# EAGLE library part TORPEDO_DM3730 (library biomimetic)
LogicPD Torpeod DM3730 System-On-Module Mating connector HiRose DF40C-100DS-0.4V(51) Digi-Key P/N: H11615CT-ND
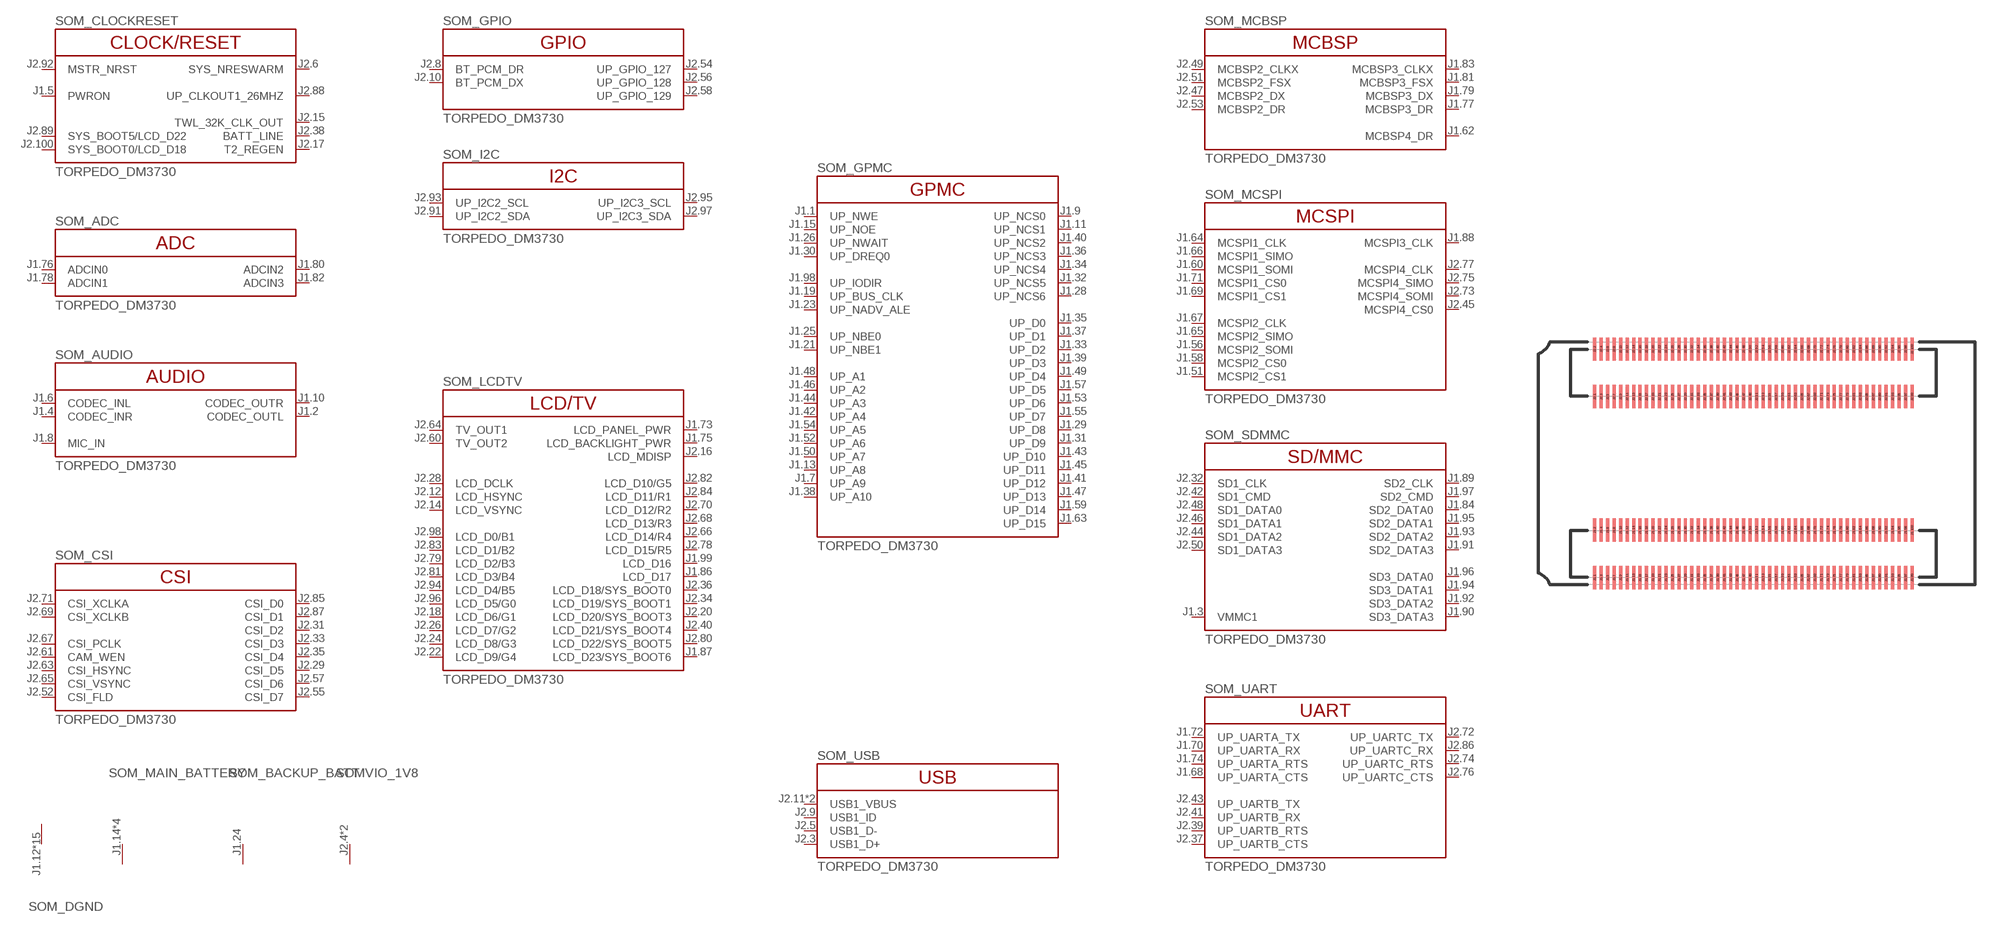
[diagram p12: symbol with the pads of TORPEDO_DM3730; footprint TORPEDO_DM3730]

Designator prefix SOM; gates _CLOCKRESET=TORPEDO_DM3730_CLOCKRESET _ADC=TORPEDO_DM3730_ADC _AUDIO=TORPEDO_DM3730_AUDIO _CSI=TORPEDO_DM3730_CSI _GPIO=TORPEDO_DM3730_GPIO _GPMC=TORPEDO_DM3730_GPMC _I2C=TORPEDO_DM3730_I2C _LCDTV=TORPEDO_DM3730_LCDTV _MCBSP=TORPEDO_DM3730_MCBSP _MCSPI=TORPEDO_DM3730_MCSPI _SDMMC=TORPEDO_DM3730_SDMMC _UART=TORPEDO_DM3730_UART _USB=TORPEDO_DM3730_USB _DGND=V- _MAIN_BATTERY=V+ _BACKUP_BATT=V+ VIO_1V8=V+

## TORPEDO_DM3730 (DIGIKEY: 460-3514-ND)  [TORPEDO_DM3730]
J1.1  _GPMC:UP_NWE
J1.2  _AUDIO:CODEC_OUTL
J1.3  _SDMMC:VMMC1
J1.4  _AUDIO:CODEC_INR
J1.5  _CLOCKRESET:PWRON
J1.6  _AUDIO:CODEC_INL
J1.7  _GPMC:UP_A9
J1.8  _AUDIO:MIC_IN
J1.9  _GPMC:UP_NCS0
J1.10  _AUDIO:CODEC_OUTR
J1.11  _GPMC:UP_NCS1
J1.12  _DGND:V-  pwr
J1.13  _GPMC:UP_A8
J1.14  _MAIN_BATTERY:V+  pwr
J1.15  _GPMC:UP_NOE
J1.16  _MAIN_BATTERY:V+  pwr
J1.17  _DGND:V-  pwr
J1.18  _MAIN_BATTERY:V+  pwr
J1.19  _GPMC:UP_BUS_CLK
J1.20  _MAIN_BATTERY:V+  pwr
J1.21  _GPMC:UP_NBE1
J1.22  _DGND:V-  pwr
J1.23  _GPMC:UP_NADV_ALE
J1.24  _BACKUP_BATT:V+  pwr
J1.25  _GPMC:UP_NBE0
J1.26  _GPMC:UP_NWAIT
J1.27  _DGND:V-  pwr
J1.28  _GPMC:UP_NCS6
J1.29  _GPMC:UP_D8
J1.30  _GPMC:UP_DREQ0
J1.31  _GPMC:UP_D9
J1.32  _GPMC:UP_NCS5
J1.33  _GPMC:UP_D2
J1.34  _GPMC:UP_NCS4
J1.35  _GPMC:UP_D0
J1.36  _GPMC:UP_NCS3
J1.37  _GPMC:UP_D1
J1.38  _GPMC:UP_A10
J1.39  _GPMC:UP_D3
J1.40  _GPMC:UP_NCS2
J1.41  _GPMC:UP_D12
J1.42  _GPMC:UP_A4
J1.43  _GPMC:UP_D10
J1.44  _GPMC:UP_A3
J1.45  _GPMC:UP_D11
J1.46  _GPMC:UP_A2
J1.47  _GPMC:UP_D13
J1.48  _GPMC:UP_A1
J1.49  _GPMC:UP_D4
J1.50  _GPMC:UP_A7
J1.51  _MCSPI:MCSPI2_CS1
J1.52  _GPMC:UP_A6
J1.53  _GPMC:UP_D6
J1.54  _GPMC:UP_A5
J1.55  _GPMC:UP_D7
J1.56  _MCSPI:MCSPI2_SOMI
J1.57  _GPMC:UP_D5
J1.58  _MCSPI:MCSPI2_CS0
J1.59  _GPMC:UP_D14
J1.60  _MCSPI:MCSPI1_SOMI
J1.61  _DGND:V-  pwr
J1.62  _MCBSP:MCBSP4_DR
J1.63  _GPMC:UP_D15
J1.64  _MCSPI:MCSPI1_CLK
J1.65  _MCSPI:MCSPI2_SIMO
J1.66  _MCSPI:MCSPI1_SIMO
J1.67  _MCSPI:MCSPI2_CLK
J1.68  _UART:UP_UARTA_CTS
J1.69  _MCSPI:MCSPI1_CS1
J1.70  _UART:UP_UARTA_RX
J1.71  _MCSPI:MCSPI1_CS0
J1.72  _UART:UP_UARTA_TX
J1.73  _LCDTV:LCD_PANEL_PWR
J1.74  _UART:UP_UARTA_RTS
J1.75  _LCDTV:LCD_BACKLIGHT_PWR
J1.76  _ADC:ADCIN0
J1.77  _MCBSP:MCBSP3_DR
J1.78  _ADC:ADCIN1
J1.79  _MCBSP:MCBSP3_DX
J1.80  _ADC:ADCIN2
J1.81  _MCBSP:MCBSP3_FSX
J1.82  _ADC:ADCIN3
J1.83  _MCBSP:MCBSP3_CLKX
J1.84  _SDMMC:SD2_DATA0
J1.85  _DGND:V-  pwr
J1.86  _LCDTV:LCD_D17
J1.87  _LCDTV:LCD_D23/SYS_BOOT6
J1.88  _MCSPI:MCSPI3_CLK
J1.89  _SDMMC:SD2_CLK
J1.90  _SDMMC:SD3_DATA3
J1.91  _SDMMC:SD2_DATA3
J1.92  _SDMMC:SD3_DATA2
J1.93  _SDMMC:SD2_DATA2
J1.94  _SDMMC:SD3_DATA1
J1.95  _SDMMC:SD2_DATA1
J1.96  _SDMMC:SD3_DATA0
J1.97  _SDMMC:SD2_CMD
J1.98  _GPMC:UP_IODIR
J1.99  _LCDTV:LCD_D16
J1.100  _DGND:V-  pwr
J2.1  _DGND:V-  pwr
J2.2  _DGND:V-  pwr
J2.3  _USB:USB1_D+
J2.4  VIO_1V8:V+  pwr
J2.5  _USB:USB1_D-
J2.6  _CLOCKRESET:SYS_NRESWARM
J2.7  VIO_1V8:V+  pwr
J2.8  _GPIO:BT_PCM_DR
J2.9  _USB:USB1_ID
J2.10  _GPIO:BT_PCM_DX
J2.11  _USB:USB1_VBUS
J2.12  _LCDTV:LCD_HSYNC
J2.13  _USB:USB1_VBUS
J2.14  _LCDTV:LCD_VSYNC
J2.15  _CLOCKRESET:TWL_32K_CLK_OUT
J2.16  _LCDTV:LCD_MDISP
J2.17  _CLOCKRESET:T2_REGEN
J2.18  _LCDTV:LCD_D6/G1
J2.20  _LCDTV:LCD_D20/SYS_BOOT3
J2.22  _LCDTV:LCD_D9/G4
J2.24  _LCDTV:LCD_D8/G3
J2.26  _LCDTV:LCD_D7/G2
J2.27  _DGND:V-  pwr
J2.28  _LCDTV:LCD_DCLK
J2.29  _CSI:CSI_D5
J2.30  _DGND:V-  pwr
J2.31  _CSI:CSI_D2
J2.32  _SDMMC:SD1_CLK
J2.33  _CSI:CSI_D3
J2.34  _LCDTV:LCD_D19/SYS_BOOT1
J2.35  _CSI:CSI_D4
J2.36  _LCDTV:LCD_D18/SYS_BOOT0
J2.37  _UART:UP_UARTB_CTS
J2.38  _CLOCKRESET:BATT_LINE
J2.39  _UART:UP_UARTB_RTS
J2.40  _LCDTV:LCD_D21/SYS_BOOT4
J2.41  _UART:UP_UARTB_RX
J2.42  _SDMMC:SD1_CMD
J2.43  _UART:UP_UARTB_TX
J2.44  _SDMMC:SD1_DATA2
J2.45  _MCSPI:MCSPI4_CS0
J2.46  _SDMMC:SD1_DATA1
J2.47  _MCBSP:MCBSP2_DX
J2.48  _SDMMC:SD1_DATA0
J2.49  _MCBSP:MCBSP2_CLKX
J2.50  _SDMMC:SD1_DATA3
J2.51  _MCBSP:MCBSP2_FSX
J2.52  _CSI:CSI_FLD
J2.53  _MCBSP:MCBSP2_DR
J2.54  _GPIO:UP_GPIO_127
J2.55  _CSI:CSI_D7
J2.56  _GPIO:UP_GPIO_128
J2.57  _CSI:CSI_D6
J2.58  _GPIO:UP_GPIO_129
J2.59  _DGND:V-  pwr
J2.60  _LCDTV:TV_OUT2
J2.61  _CSI:CAM_WEN
J2.62  _DGND:V-  pwr
J2.63  _CSI:CSI_HSYNC
J2.64  _LCDTV:TV_OUT1
J2.65  _CSI:CSI_VSYNC
J2.66  _LCDTV:LCD_D14/R4
J2.67  _CSI:CSI_PCLK
J2.68  _LCDTV:LCD_D13/R3
J2.69  _CSI:CSI_XCLKB
J2.70  _LCDTV:LCD_D12/R2
J2.71  _CSI:CSI_XCLKA
J2.72  _UART:UP_UARTC_TX
J2.73  _MCSPI:MCSPI4_SOMI
J2.74  _UART:UP_UARTC_RTS
J2.75  _MCSPI:MCSPI4_SIMO
J2.76  _UART:UP_UARTC_CTS
J2.77  _MCSPI:MCSPI4_CLK
J2.78  _LCDTV:LCD_D15/R5
J2.79  _LCDTV:LCD_D2/B3
J2.80  _LCDTV:LCD_D22/SYS_BOOT5
J2.81  _LCDTV:LCD_D3/B4
J2.82  _LCDTV:LCD_D10/G5
J2.83  _LCDTV:LCD_D1/B2
J2.84  _LCDTV:LCD_D11/R1
J2.85  _CSI:CSI_D0
J2.86  _UART:UP_UARTC_RX
J2.87  _CSI:CSI_D1
J2.88  _CLOCKRESET:UP_CLKOUT1_26MHZ
J2.89  _CLOCKRESET:SYS_BOOT5/LCD_D22
J2.90  _DGND:V-  pwr
J2.91  _I2C:UP_I2C2_SDA
J2.92  _CLOCKRESET:MSTR_NRST
J2.93  _I2C:UP_I2C2_SCL
J2.94  _LCDTV:LCD_D4/B5
J2.95  _I2C:UP_I2C3_SCL
J2.96  _LCDTV:LCD_D5/G0
J2.97  _I2C:UP_I2C3_SDA
J2.98  _LCDTV:LCD_D0/B1
J2.99  _DGND:V-  pwr
J2.100  _CLOCKRESET:SYS_BOOT0/LCD_D18

## Footprint TORPEDO_DM3730 (pad centres in mm)
smd 0.2 x 1.44: J1.1 -9.8,-7.06; J1.2 -9.8,-4.12; J1.3 -9.4,-7.06; J1.4 -9.4,-4.12; J1.5 -9,-7.06; J1.6 -9,-4.12; J1.7 -8.6,-7.06; J1.8 -8.6,-4.12; J1.9 -8.2,-7.06; J1.10 -8.2,-4.12; J1.11 -7.8,-7.06; J1.12 -7.8,-4.12; J1.13 -7.4,-7.06; J1.14 -7.4,-4.12; J1.15 -7,-7.06; J1.16 -7,-4.12; J1.17 -6.6,-7.06; J1.18 -6.6,-4.12; J1.19 -6.2,-7.06; J1.20 -6.2,-4.12; J1.21 -5.8,-7.06; J1.22 -5.8,-4.12; J1.23 -5.4,-7.06; J1.24 -5.4,-4.12; J1.25 -5,-7.06; J1.26 -5,-4.12; J1.27 -4.6,-7.06; J1.28 -4.6,-4.12; J1.29 -4.2,-7.06; J1.30 -4.2,-4.12; J1.31 -3.8,-7.06; J1.32 -3.8,-4.12; J1.33 -3.4,-7.06; J1.34 -3.4,-4.12; J1.35 -3,-7.06; J1.36 -3,-4.12; J1.37 -2.6,-7.06; J1.38 -2.6,-4.12; J1.39 -2.2,-7.06; J1.40 -2.2,-4.12; J1.41 -1.8,-7.06; J1.42 -1.8,-4.12; J1.43 -1.4,-7.06; J1.44 -1.4,-4.12; J1.45 -1,-7.06; J1.46 -1,-4.12; J1.47 -0.6,-7.06; J1.48 -0.6,-4.12; J1.49 -0.2,-7.06; J1.50 -0.2,-4.12; J1.51 0.2,-7.06; J1.52 0.2,-4.12; J1.53 0.6,-7.06; J1.54 0.6,-4.12; J1.55 1,-7.06; J1.56 1,-4.12; J1.57 1.4,-7.06; J1.58 1.4,-4.12; J1.59 1.8,-7.06; J1.60 1.8,-4.12; J1.61 2.2,-7.06; J1.62 2.2,-4.12; J1.63 2.6,-7.06; J1.64 2.6,-4.12; J1.65 3,-7.06; J1.66 3,-4.12; J1.67 3.4,-7.06; J1.68 3.4,-4.12; J1.69 3.8,-7.06; J1.70 3.8,-4.12; J1.71 4.2,-7.06; J1.72 4.2,-4.12; J1.73 4.6,-7.06; J1.74 4.6,-4.12; J1.75 5,-7.06; J1.76 5,-4.12; J1.77 5.4,-7.06; J1.78 5.4,-4.12; J1.79 5.8,-7.06; J1.80 5.8,-4.12; J1.81 6.2,-7.06; J1.82 6.2,-4.12; J1.83 6.6,-7.06; J1.84 6.6,-4.12; J1.85 7,-7.06; J1.86 7,-4.12; J1.87 7.4,-7.06; J1.88 7.4,-4.12; J1.89 7.8,-7.06; J1.90 7.8,-4.12; J1.91 8.2,-7.06; J1.92 8.2,-4.12; J1.93 8.6,-7.06; J1.94 8.6,-4.12; J1.95 9,-7.06; J1.96 9,-4.12; J1.97 9.4,-7.06; J1.98 9.4,-4.12; J1.99 9.8,-7.06; J1.100 9.8,-4.12; J2.1 -9.8,4.12; J2.2 -9.8,7.06; J2.3 -9.4,4.12; J2.4 -9.4,7.06; J2.5 -9,4.12; J2.6 -9,7.06; J2.7 -8.6,4.12; J2.8 -8.6,7.06; J2.9 -8.2,4.12; J2.10 -8.2,7.06; J2.11 -7.8,4.12; J2.12 -7.8,7.06; J2.13 -7.4,4.12; J2.14 -7.4,7.06; J2.15 -7,4.12; J2.16 -7,7.06; J2.17 -6.6,4.12; J2.18 -6.6,7.06; J2.19 -6.2,4.12; J2.20 -6.2,7.06; J2.21 -5.8,4.12; J2.22 -5.8,7.06; J2.23 -5.4,4.12; J2.24 -5.4,7.06; J2.25 -5,4.12; J2.26 -5,7.06; J2.27 -4.6,4.12; J2.28 -4.6,7.06; J2.29 -4.2,4.12; J2.30 -4.2,7.06; J2.31 -3.8,4.12; J2.32 -3.8,7.06; J2.33 -3.4,4.12; J2.34 -3.4,7.06; J2.35 -3,4.12; J2.36 -3,7.06; J2.37 -2.6,4.12; J2.38 -2.6,7.06; J2.39 -2.2,4.12; J2.40 -2.2,7.06; J2.41 -1.8,4.12; J2.42 -1.8,7.06; J2.43 -1.4,4.12; J2.44 -1.4,7.06; J2.45 -1,4.12; J2.46 -1,7.06; J2.47 -0.6,4.12; J2.48 -0.6,7.06; J2.49 -0.2,4.12; J2.50 -0.2,7.06; J2.51 0.2,4.12; J2.52 0.2,7.06; J2.53 0.6,4.12; J2.54 0.6,7.06; J2.55 1,4.12; J2.56 1,7.06; J2.57 1.4,4.12; J2.58 1.4,7.06; J2.59 1.8,4.12; J2.60 1.8,7.06; J2.61 2.2,4.12; J2.62 2.2,7.06; J2.63 2.6,4.12; J2.64 2.6,7.06; J2.65 3,4.12; J2.66 3,7.06; J2.67 3.4,4.12; J2.68 3.4,7.06; J2.69 3.8,4.12; J2.70 3.8,7.06; J2.71 4.2,4.12; J2.72 4.2,7.06; J2.73 4.6,4.12; J2.74 4.6,7.06; J2.75 5,4.12; J2.76 5,7.06; J2.77 5.4,4.12; J2.78 5.4,7.06; J2.79 5.8,4.12; J2.80 5.8,7.06; J2.81 6.2,4.12; J2.82 6.2,7.06; J2.83 6.6,4.12; J2.84 6.6,7.06; J2.85 7,4.12; J2.86 7,7.06; J2.87 7.4,4.12; J2.88 7.4,7.06; J2.89 7.8,4.12; J2.90 7.8,7.06; J2.91 8.2,4.12; J2.92 8.2,7.06; J2.93 8.6,4.12; J2.94 8.6,7.06; J2.95 9,4.12; J2.96 9,7.06; J2.97 9.4,4.12; J2.98 9.4,7.06; J2.99 9.8,4.12; J2.100 9.8,7.06